# Altium footprint library CON- FASTON.PcbLib: 1 footprints
Each footprint in its own frame and in the unit in brackets; x right, y up, seen from the top. Pads: shape width x height; smd on the part's side, far side on the other; paste and mask are expansions set on the pad; w line width, h text height; cw(c..) or ccw(c..) is an arc to the next point about the centre after c.
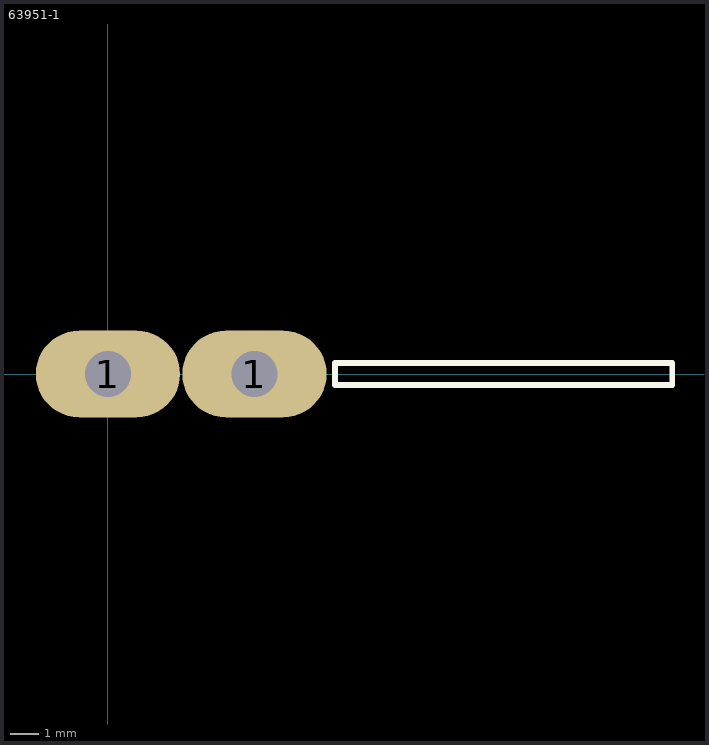
[diagram p0: the footprint, top view; thin cyan lines are the x and y axes]

## 63951-1 [mm]
pads (2):
  oval 5x3 hole 1.6 unplated: 1(0,0) 1(5.08,0)
Top Overlay:
  lines w0.2: 7.874,-0.381 19.558,-0.381 19.558,0.381 7.874,0.381 7.874,-0.381
3D body "c-63951-1-s-3d.stp": height 8.9, standoff -3.8, extent -0.762,-0.419 19.558,0.381